# EAGLE library part 9618-50 (library impellimax-drivers)
Please contact factory for your specific package and pinout needs. www.impellimax.com 603-886-9569
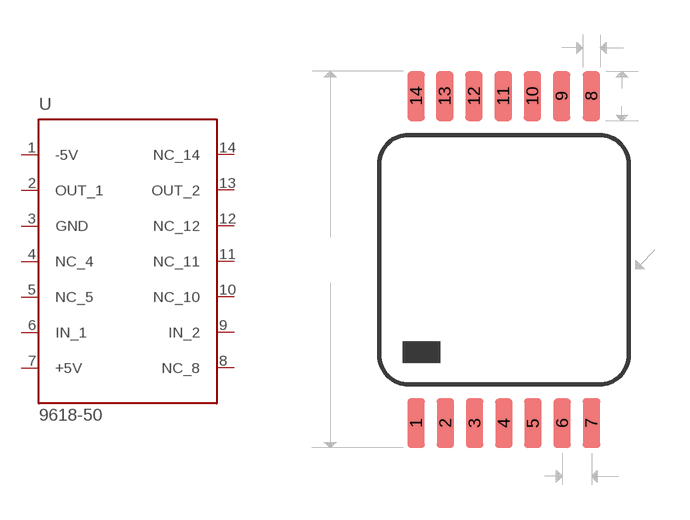
[diagram p9: symbol with the pads of 7400_C107; footprint 7400_C107]

Designator prefix U

## 9618-50  [7400_C107]
1  -5V  in
2  OUT_1  in
3  GND  pas
4  NC_4  in
5  NC_5  in
6  IN_1  in
7  +5V  pas
8  NC_8  in
9  IN_2  in
10  NC_10  in
11  NC_11  in
12  NC_12  in
13  OUT_2  in
14  NC_14  in

## Footprint 7400_C107 (pad centres in mm)
.395 square package actual lead to lead length .615 max not leadformed, seat package in thru-hole lead width .016, land pattern width .030
smd 0.762 x 2.159: 1 -3.811,-7.114; 2 -2.541,-7.11; 3 -1.269,-7.112; 4 0.001,-7.115; 5 1.267,-7.112; 6 2.538,-7.115; 7 3.809,-7.112; 8 3.808,7.11; 9 2.513,7.11; 10 1.243,7.11; 11 -0.025,7.11; 12 -1.297,7.11; 13 -2.567,7.11; 14 -3.812,7.11